# EAGLE library part SN74LVC2T45-EP (library OSSI)
SN74LVC2T45-EP DUAL-BIT DUAL-SUPPLY BUS TRANSCEIVER WITH CONFIGURABLE VOLTAGE TRANSLATION AND 3-STATE OUTPUTS
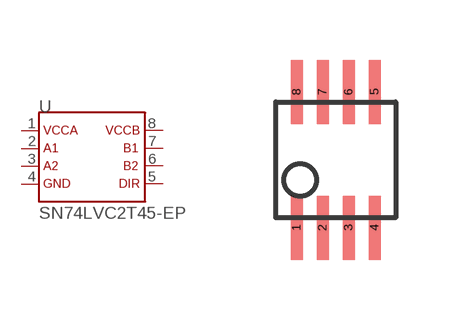
[diagram p46: symbol with the pads of DCT_R-PDSO-G8; footprint DCT_R-PDSO-G8]

Designator prefix U

## SN74LVC2T45-EP  [DCT_R-PDSO-G8]
1  P$1
2  P$2
3  P$3
4  P$4
5  P$5
6  P$6
7  P$7
8  P$8

## Footprint DCT_R-PDSO-G8 (pad centres in mm)
DCT R-PDSO-G8
smd 0.3 x 1.6: 1 -0.975,-1.7; 2 -0.325,-1.7; 3 0.325,-1.7; 4 0.975,-1.7; 5 0.975,1.7; 6 0.325,1.7; 7 -0.325,1.7; 8 -0.975,1.7